# EAGLE library part A-USB3A-LP-SMT1 (library con-usb)
USB - A USB 3.0, Super Speed Plug Connector 9 Position Surface Mount, Right Angle; Through Hole
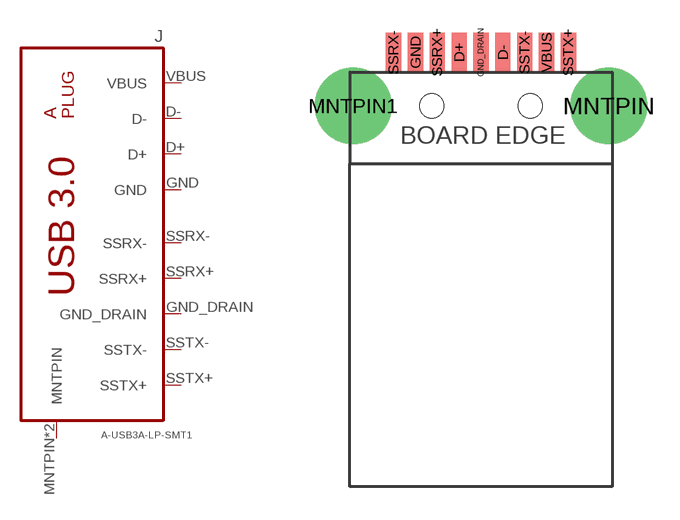
[diagram p16: symbol with the pads of A-USB3A-LP-SMT1; footprint A-USB3A-LP-SMT1]

Designator prefix J

## A-USB3A-LP-SMT1 (DIGIKEY: AE10703-ND; MFR: Assmann WSW Components; MPN: A-USB3 A-LP-SMT1)  [A-USB3A-LP-SMT1]
D+  D+
D-  D-
GND  GND
GND_DRAIN  GND_DRAIN
MNTPIN  MNTPIN
MNTPIN1  MNTPIN
SSRX+  SSRX+
SSRX-  SSRX-
SSTX+  SSTX+
SSTX-  SSTX-
VBUS  VBUS

## Footprint A-USB3A-LP-SMT1 (pad centres in mm)
smd 0.7 x 1.8: D+ -1,5.1; D- 1,5.1; GND -3,5.1; GND_DRAIN 0,5.1; SSRX+ -2,5.1; SSRX- -4,5.1; SSTX+ 4,5.1; SSTX- 2,5.1; VBUS 3,5.1
drill 2.5: MNTPIN 5.85,2.65; MNTPIN1 -5.85,2.65
hole 1.1 at -2.25,2.65
hole 1.1 at 2.25,2.65